# EAGLE library part TPS630250RNCR (library texasinstruments)
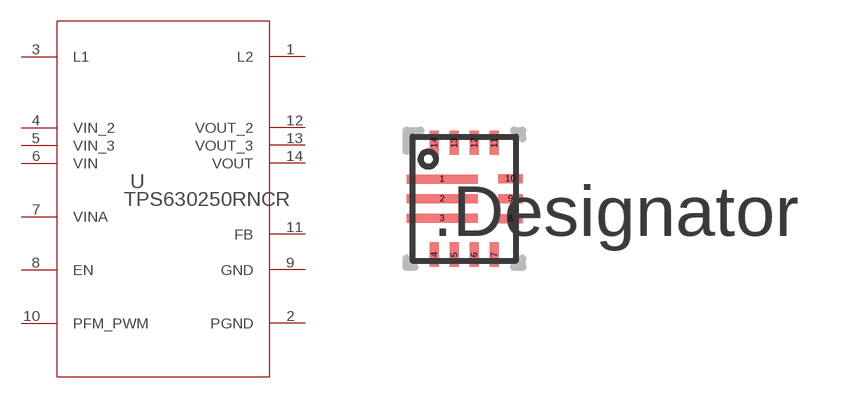
[diagram p2: symbol with the pads of RNC0014A; footprint RNC0014A]

Designator prefix U

## TPS630250RNCR (ALTERNATEPARTNUMBER: TPS630250RNCT; COMPTYPE: IC; MANUFACTURER: Texas Instruments; MOUNTTYPE: SMT; PACKAGEREFERENCE: RNC0014A; PARTNUMBER: TPS630250RNCR; PIN_COUNT: 14; REFDES: RefDes; TYPE: TYPE; VALUE: Value)  [RNC0014A]
1  L2  pas
2  PGND  pwr
3  L1  pas
4  VIN_2  pwr
5  VIN_3  pwr
6  VIN  pwr
7  VINA  pwr
8  EN  in
9  GND  pwr
10  PFM_PWM  in
11  FB  in
12  VOUT_2  pwr
13  VOUT_3  pwr
14  VOUT  pwr

## Footprint RNC0014A (pad centres in mm)
smd 1.778 x 0.229: 1 -0.555,0.49; 2 -0.555,0; 3 -0.555,-0.49
smd 0.229 x 0.61: 4 -0.75,-1.4; 5 -0.25,-1.4; 6 0.25,-1.4; 7 0.75,-1.4; 11 0.75,1.4; 12 0.25,1.4; 13 -0.25,1.4; 14 -0.75,1.4
smd 0.61 x 0.229: 8 1.15,-0.5; 9 1.15,0; 10 1.15,0.5